# Altium footprint library AIRD-03-330K.PcbLib: 1 footprints
Each footprint in its own frame and in the unit in brackets; x right, y up, seen from the top. Pads: shape width x height; smd on the part's side, far side on the other; paste and mask are expansions set on the pad; w line width, h text height; cw(c..) or ccw(c..) is an arc to the next point about the centre after c.
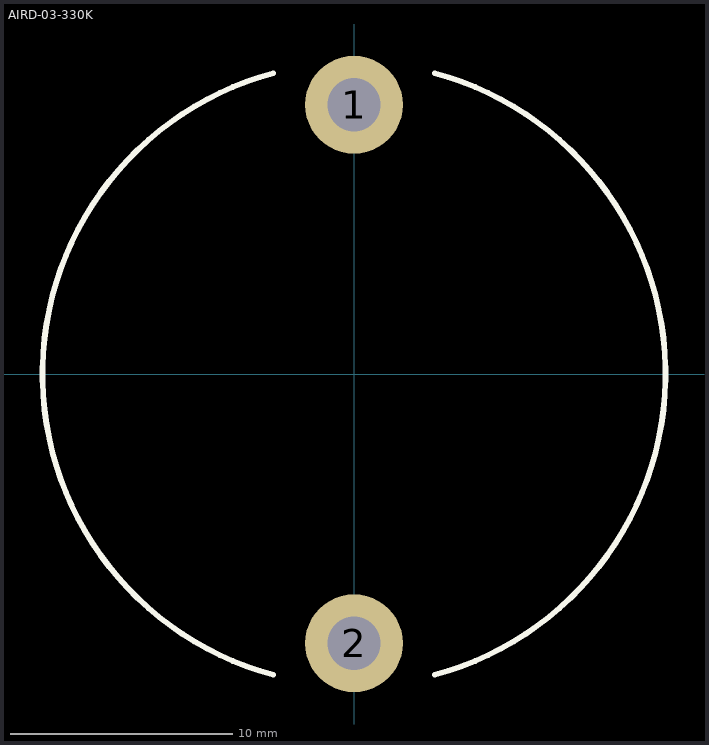
[diagram p0: the footprint, top view; thin cyan lines are the x and y axes]

## AIRD-03-330K [mm] "24mm leaded inductor"
pads (2):
  round 4.4 hole 2.4: 1(0,12.1) 2(0,-12.1)
Top Overlay:
  lines w0.254: -3.623,-13.523 cw(c0,0) -3.623,13.523 ; 3.623,-13.523 ccw(c0,0) 3.623,13.523
3D body: height 21, standoff 0, extent -14,-13.996 14,13.996